# Altium footprint library Pads.PcbLib: 1 footprints
Each footprint in its own frame and in the unit in brackets; x right, y up, seen from the top. Pads: shape width x height; smd on the part's side, far side on the other; paste and mask are expansions set on the pad; w line width, h text height; cw(c..) or ccw(c..) is an arc to the next point about the centre after c.
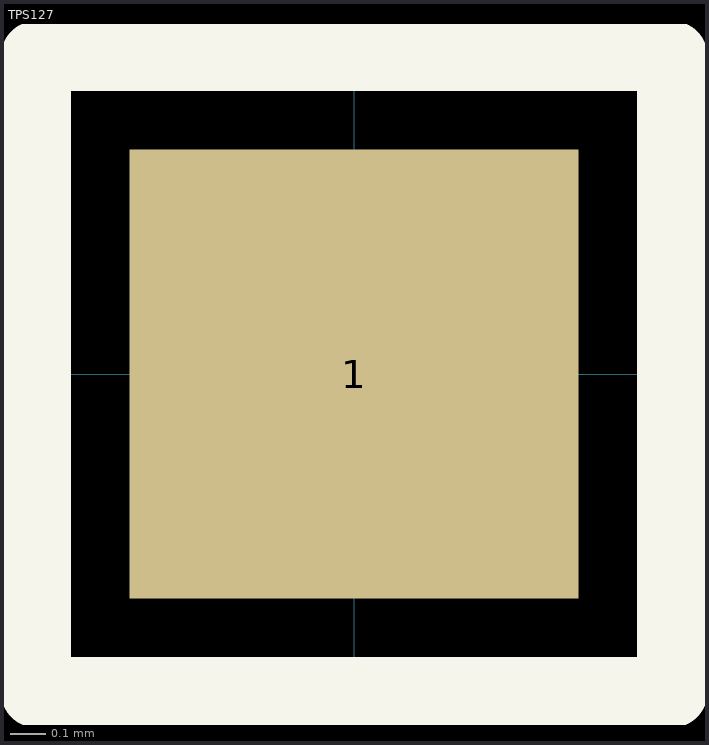
[diagram p0: the footprint, top view; thin cyan lines are the x and y axes]

## TPS127 [mil] "1.27 x  1.27mm SMD Test Point Area"
pads (1):
  rect 50x50 smd paste-50: 1(0,0)
Top Overlay:
  lines w7.87: -35.43,-35.43 -35.43,35.43 35.43,35.43 35.43,-35.43 -35.43,-35.43
Mechanical 14:
  lines w3.94: -35.43,-35.43 -35.43,35.43 35.43,35.43 35.43,-35.43 -35.43,-35.43